# Altium schematic symbol library Schlib1.SchLib: 8 symbols
Pins are listed as number, name and electrical type; pins without a type are passive.

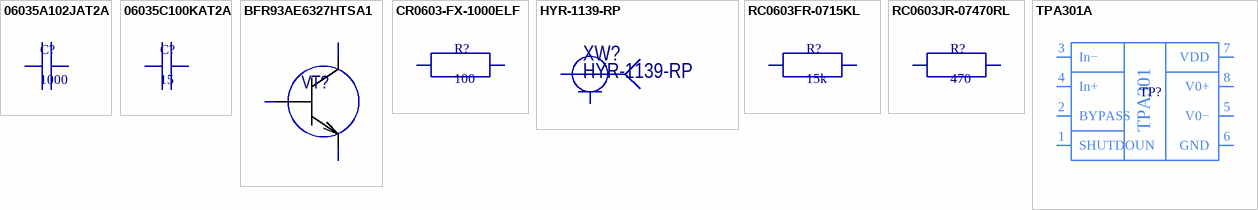
[diagram p0: symbols 06035A102JAT2A to TPA301A]

## 06035A102JAT2A
designator С?, comment 1000
Cap. 1000nF, 0603
footprint C_0603
pins: 1, 2

## 06035C100KAT2A
designator C?, comment 15
Cap. 15 pF, 0603
footprint C_0603
pins: 1, 2

## BFR93AE6327HTSA1
designator VT?
BFR93 NPN
footprint BFR93A SOT95P230X110-3L (SOT23, 3-Leads, Body 2.90x2.30mm, Pitch 0.95mm, IPC High Density)
pins: 1 B, 2 E, 3 C

## CR0603-FX-1000ELF
designator R?, comment 100
Res. 100 Ohm, 0603
footprint R_0603
pins: 1, 2

## HYR-1139-RP
designator XW?
footprint SMA (HYR1139)
pins: 1, 2

## RC0603FR-0715KL
designator R?, comment 15k
Res. 15 kOhm, 0603
footprint R_0603
pins: 1, 2

## RC0603JR-07470RL
designator R?, comment 470
Res. 470 Ohm, 0603
footprint R_0603
pins: 1, 2

## TPA301A
designator TP?
TPA301
footprint TPA301 TSOP65P490X110_HS-9L (TSOP, 8-Leads, Body 3.00x3.00mm, Pitch 0.65mm, Thermal Pad 1.89x1.57mm, IPC High Density)
pins: 1 SHUTDOUN, 2 BYPASS, 3 In−, 4 In+, 5 V0−, 6 GND, 7 VDD, 8 V0+